# EAGLE library part DISP_PSP_LCDCON (library microbuilder)
Sharp LQ043xx/PSP 24-Bit LCD Display UPPER - FPC Connector w/Upper Contacts BOTTOM - FPC Connector w/Bottom Contacts Use the UPPER connector if the LCD connector is on one side of the board and the LCD will be wrapped around the edge onto the other side of the board (which is what normally happens). Use the BOTTOM connector if the LCD and the connector are on the same side of the board (the cable with be folded directly underneath the LCD).
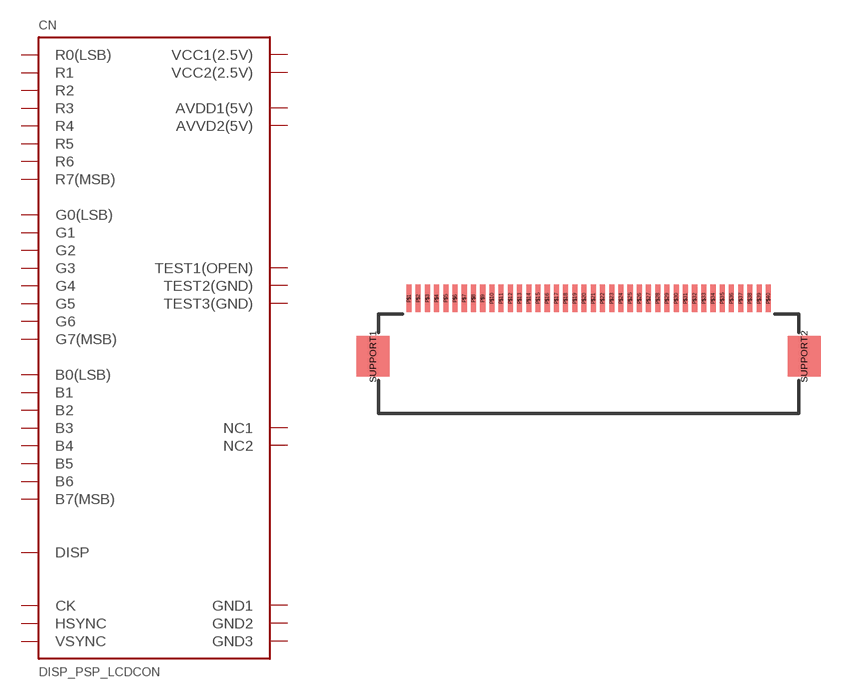
[diagram p21: symbol with the pads of FPC40PIN; footprint FPC40PIN]

Designator prefix CN

## DISP_PSP_LCDCONBOTTOM  [FPC40PIN]
P$1  GND1  pwr
P$2  GND2  pwr
P$3  VCC1(2.5V)  pwr
P$4  VCC2(2.5V)  pwr
P$5  R0(LSB)  in
P$6  R1  in
P$7  R2  in
P$8  R3  in
P$9  R4  in
P$10  R5  in
P$11  R6  in
P$12  R7(MSB)  in
P$13  G0(LSB)  in
P$14  G1  in
P$15  G2  in
P$16  G3  in
P$17  G4  in
P$18  G5  in
P$19  G6  in
P$20  G7(MSB)  in
P$21  B0(LSB)  in
P$22  B1  in
P$23  B2  in
P$24  B3  in
P$25  B4  in
P$26  B5  in
P$27  B6  in
P$28  B7(MSB)  in
P$29  GND3  pwr
P$30  CK
P$31  DISP
P$32  HSYNC
P$33  VSYNC
P$34  NC1  nc
P$35  AVDD1(5V)
P$36  AVVD2(5V)
P$37  NC2  nc
P$38  TEST1(OPEN)
P$39  TEST2(GND)
P$40  TEST3(GND)

## DISP_PSP_LCDCONUPPER  [FPC40PIN]
P$1  TEST3(GND)
P$2  TEST2(GND)
P$3  TEST1(OPEN)
P$4  NC2  nc
P$5  AVVD2(5V)
P$6  AVDD1(5V)
P$7  NC1  nc
P$8  VSYNC
P$9  HSYNC
P$10  DISP
P$11  CK
P$12  GND3  pwr
P$13  B7(MSB)  in
P$14  B6  in
P$15  B5  in
P$16  B4  in
P$17  B3  in
P$18  B2  in
P$19  B1  in
P$20  B0(LSB)  in
P$21  G7(MSB)  in
P$22  G6  in
P$23  G5  in
P$24  G4  in
P$25  G3  in
P$26  G2  in
P$27  G1  in
P$28  G0(LSB)  in
P$29  R7(MSB)  in
P$30  R6  in
P$31  R5  in
P$32  R4  in
P$33  R3  in
P$34  R2  in
P$35  R1  in
P$36  R0(LSB)  in
P$37  VCC2(2.5V)  pwr
P$38  VCC1(2.5V)  pwr
P$39  GND2  pwr
P$40  GND1  pwr

## Footprint FPC40PIN (pad centres in mm)
Sharp LQ043xxx LCD Connector FPC 0.5mm 40 Pin Bottom
smd 0.275 x 1.5: P$1 -9.75,0.75; P$2 -9.25,0.75; P$3 -8.75,0.75; P$4 -8.25,0.75; P$5 -7.75,0.75; P$6 -7.25,0.75; P$7 -6.75,0.75; P$8 -6.25,0.75; P$9 -5.75,0.75; P$10 -5.25,0.75; P$11 -4.75,0.75; P$12 -4.25,0.75; P$13 -3.75,0.75; P$14 -3.25,0.75; P$15 -2.75,0.75; P$16 -2.25,0.75; P$17 -1.75,0.75; P$18 -1.25,0.75; P$19 -0.75,0.75; P$20 -0.25,0.75; P$21 0.25,0.75; P$22 0.75,0.75; P$23 1.25,0.75; P$24 1.75,0.75; P$25 2.25,0.75; P$26 2.75,0.75; P$27 3.25,0.75; P$28 3.75,0.75; P$29 4.25,0.75; P$30 4.75,0.75; P$31 5.25,0.75; P$32 5.75,0.75; P$33 6.25,0.75; P$34 6.75,0.75; P$35 7.25,0.75; P$36 7.75,0.75; P$37 8.25,0.75; P$38 8.75,0.75; P$39 9.25,0.75; P$40 9.75,0.75
smd 1.8 x 2.2: SUPPORT1 -11.7,-2.4; SUPPORT2 11.7,-2.4